# Altium footprint library final_sensor_pcb_lib.PcbLib: 16 footprints
Each footprint in its own frame and in the unit in brackets; x right, y up, seen from the top. Pads: shape width x height; smd on the part's side, far side on the other; paste and mask are expansions set on the pad; w line width, h text height; cw(c..) or ccw(c..) is an arc to the next point about the centre after c.
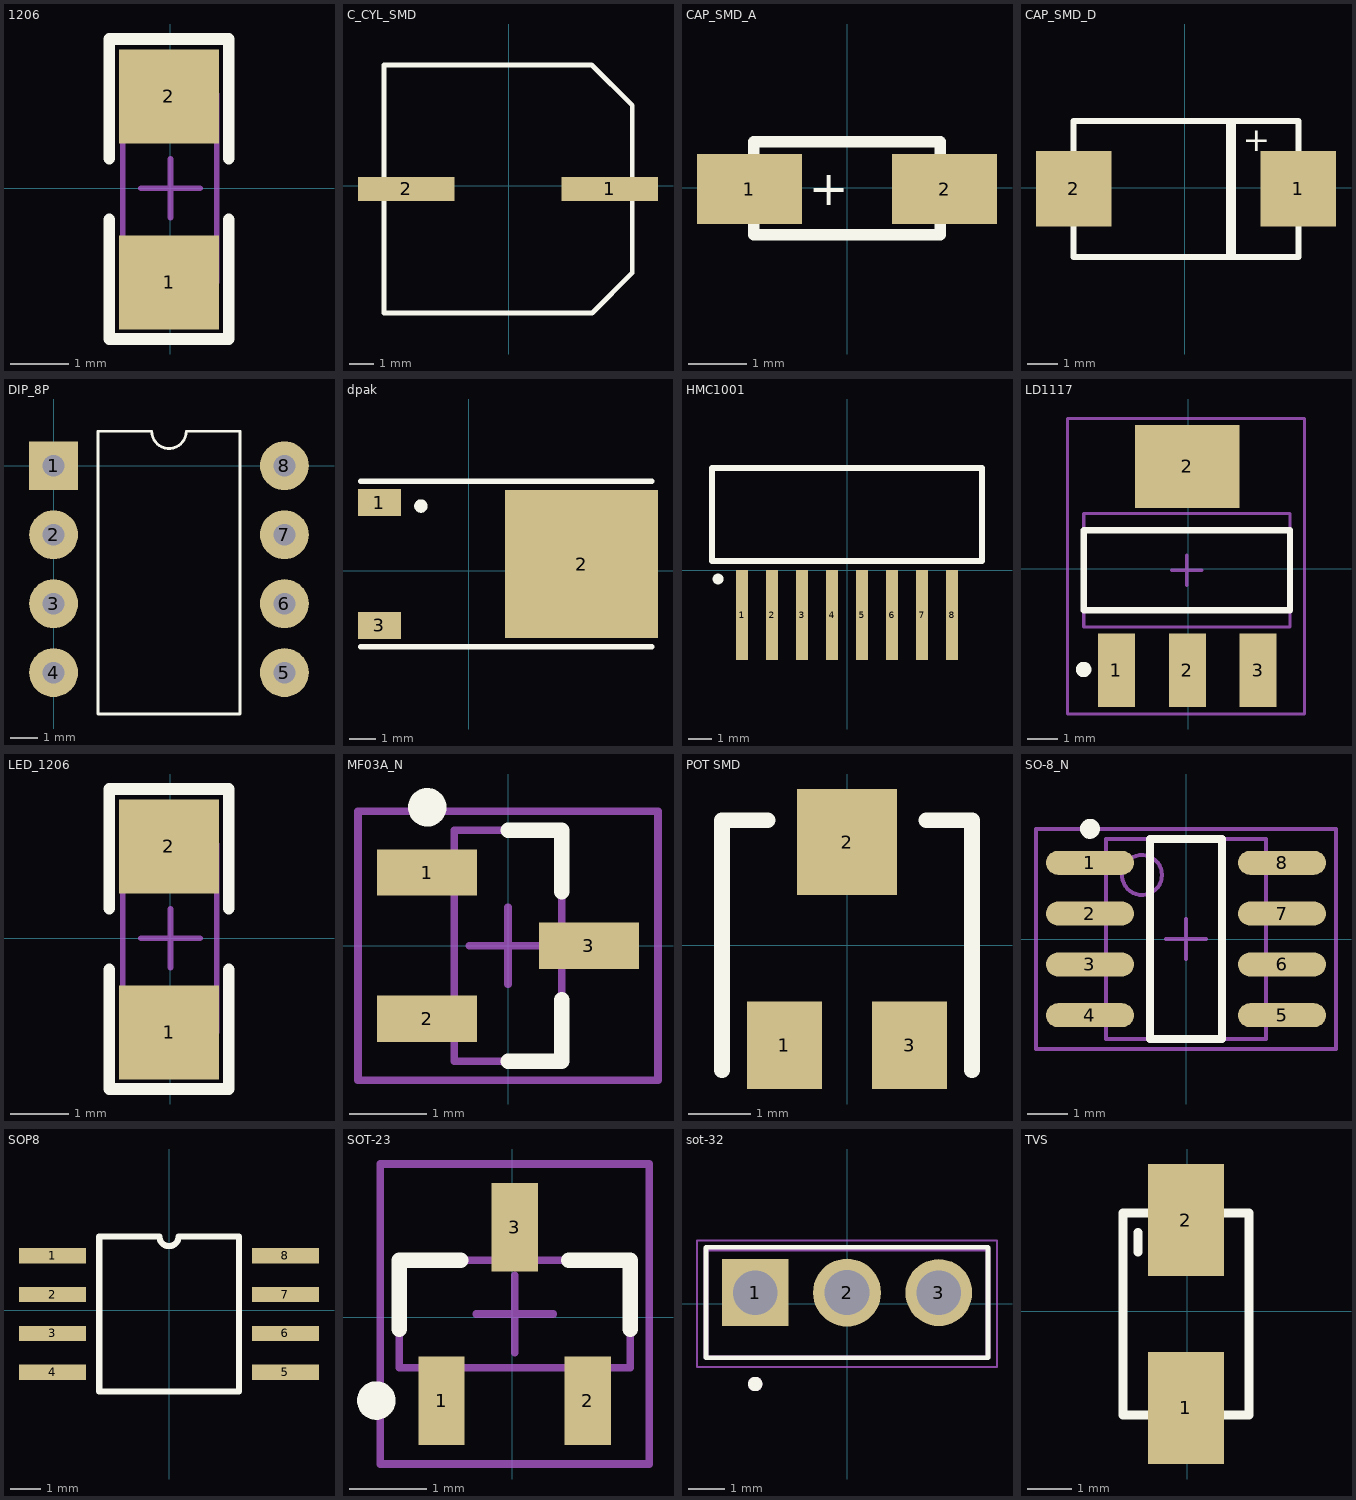
[diagram p0: the footprints below, top view; thin cyan lines are the x and y axes]

## 1206 [mm]
pads (2):
  rect 1.7x1.6 smd: 1(-0.025,-1.6) 2(-0.025,1.563)
Top Overlay:
  lines w0.2: -1.041,-0.533 -1.041,-2.565 0.991,-2.565 0.991,-0.533 ; -1.041,0.508 -1.041,2.54 0.991,2.54 0.991,0.508
Mechanical 15:
  lines w0.1: -0.5,0 0.5,0 ; 0,-0.5 0,0.5 ; -0.813,-1.6 0.787,-1.6 0.787,1.6 -0.813,1.6 -0.813,-1.6
3D body: height 1.1, standoff 0, extent -0.813,-1.422 0.787,1.422
3D body: height 1.1, standoff 0, extent -0.813,-1.676 0.787,-1.422
3D body: height 1.1, standoff 0, extent -0.813,1.422 0.787,1.676

## C_CYL_SMD [mm]
pads (2):
  rect 4x1 smd: 1(4.191,-0.127) 2(-4.267,-0.127)
Top Overlay:
  lines w0.2: -5.182,-5.283 3.454,-5.283 5.118,-3.619 5.118,3.34 3.441,5.017 -5.182,5.017 -5.182,-5.283
3D body: height 2, standoff 0, extent -5.182,-5.283 5.118,5.017
3D body: height 10, standoff 0, extent -5.004,-5.131 4.957,4.849

## CAP_SMD_A [mm]
pads (2):
  rect 1.8x1.2 smd: 1(-1.676,-0.025) 2(1.676,-0.025)
Top Overlay:
  lines w0.2: -1.6,-0.813 1.6,-0.813 1.6,0.787 -1.6,0.787 -1.6,-0.813
  text "+" at -0.66,-0.305 h0.6

## CAP_SMD_D [mm]
pads (2):
  rect 2.5x2.5 smd: 1(3.767,-0.025) 2(-3.683,-0.025)
Top Overlay:
  rectangle: 1.372,-2.286 1.702,2.214
  lines w0.2: -3.683,-2.286 -3.683,2.214 3.767,2.214 3.767,-2.286 -3.683,-2.286
  text "+" at 1.93,1.219 h0.8

## DIP_8P [mm]
pads (8):
  rect 1.8x1.8 hole 0.8: 1(0,0)
  round 1.8 hole 0.8: 2(0,-2.54) 3(0,-5.08) 4(0,-7.62) 5(8.5,-7.62) 6(8.5,-5.08) 7(8.5,-2.54) 8(8.5,0)
Top Overlay:
  lines w0.1: 1.635,-9.144 6.865,-9.144 6.865,1.27 4.885,1.27 cw(c4.25,1.27) 3.615,1.27 1.635,1.27 1.635,-9.144
3D body: height 3, standoff 0, extent 1.651,-9.144 6.858,1.27

## dpak [mm]
pads (3):
  rect 1.6x1 smd: 1(-3.319,2.539) 3(-3.319,-2.031)
  rect 5.7x5.5 smd: 2(4.208,0.254)
Top Overlay:
  circle w0.25: c-1.776,2.413 r0.125
  lines w0.2: -4.019,-2.831 6.831,-2.831 ; -4.019,3.339 6.831,3.339

## HMC1001 [mm]
pads (8):
  rect 0.5x3.81 smd: 1(-4.445,-1.905) 2(-3.175,-1.905) 3(-1.905,-1.905) 4(-0.635,-1.905) 5(0.635,-1.905) 6(1.905,-1.905) 7(3.175,-1.905) 8(4.445,-1.905)
Top Overlay:
  circle w0.254: c-5.461,-0.381 r0.102
  lines w0.254: -5.715,0.381 -5.715,4.318 5.715,4.318 5.715,0.381 -5.715,0.381

## LD1117 [mm]
pads (4):
  rect 1.2x2.4 smd: 1(-2.337,-3.302) 2(-0.034,-3.302) 3(2.265,-3.302)
  rect 3.4x2.7 smd: 2(-0.034,3.327)
Top Overlay:
  circle w0.25: c-3.402,-3.277 r0.125
  lines w0.2: -3.401,-1.351 -3.401,1.249 3.299,1.249 3.299,-1.351 -3.401,-1.351
Mechanical 13:
  lines w0.1: -3.401,-1.901 -3.401,1.799 3.299,1.799 3.299,-1.901 -3.401,-1.901
Mechanical 15:
  lines w0.1: -0.551,-0.051 0.449,-0.051 ; -0.051,-0.551 -0.051,0.449 ; -3.926,-4.724 3.774,-4.724 3.774,4.876 -3.926,4.876 -3.926,-4.724
3D body: height 1.7, standoff 0, extent -3.401,-1.901 3.299,1.799

## LED_1206 [mm]
pads (2):
  rect 1.7x1.6 smd: 1(-0.025,-1.6) 2(-0.025,1.563)
Top Overlay:
  lines w0.2: -1.041,-0.533 -1.041,-2.565 0.991,-2.565 0.991,-0.533 ; -1.041,0.508 -1.041,2.54 0.991,2.54 0.991,0.508
Mechanical 15:
  lines w0.1: -0.5,0 0.5,0 ; 0,-0.5 0,0.5 ; -0.813,-1.6 -0.813,1.6 0.787,1.6 0.787,-1.6 -0.813,-1.6
3D body: height 0.3, standoff 0, extent -0.813,1.219 0.787,1.676
3D body: height 0.3, standoff 0, extent -0.813,-1.676 0.787,-1.219
3D body: height 1.1, standoff 0, extent -0.813,-1.219 0.787,1.219

## MF03A_N [mm] "SOT23, 3-Leads, Body 2.9x1.3mm, Pitch 0.95mm, Lead Span 2.4mm, IPC Medium Density"
height 1.12
pads (3):
  rect 1.3x0.6 smd: 1(-1.05,0.95) 2(-1.05,-0.95) 3(1.05,0)
Top Overlay:
  circle w0.25: c-1.05,1.8 r0.125
  lines w0.2: 0,-1.5 0.7,-1.5 0.7,-0.7 ; 0,1.5 0.7,1.5 0.7,0.7
Mechanical 13:
  lines w0.1: -0.7,-1.5 0.7,-1.5 0.7,1.5 -0.7,1.5 -0.7,-1.5
Mechanical 15:
  lines w0.1: -0.5,0 0.5,0 ; 0,-0.5 0,0.5 ; -1.95,-1.75 1.95,-1.75 1.95,1.75 -1.95,1.75 -1.95,-1.75
3D body: height 1.12, standoff 0, extent -0.7,-1.5 0.7,1.5

## POT SMD [mm]
height 1.62
pads (3):
  rect 1.2x1.4 smd: 1(-1,-1.6) 3(1,-1.6)
  rect 1.6x1.7 smd: 2(0,1.65)
Top Overlay:
  lines w0.254: -2,-2 -2,2 -1.27,2 ; 1.27,2 2,2 2,-2

## SO-8_N [mm] "SOIC, 8-Leads, Body 4.9x3.9mm, Pitch 1.27mm, IPC Medium Density"
height 1.75
pads (8):
  oval 2.2x0.6 smd: 1(-2.4,1.905) 2(-2.4,0.635) 3(-2.4,-0.635) 4(-2.4,-1.905) 5(2.4,-1.905) 6(2.4,-0.635) 7(2.4,0.635) 8(2.4,1.905)
Top Overlay:
  circle w0.25: c-2.4,2.755 r0.125
  lines w0.2: -0.9,-2.5 -0.9,2.5 0.9,2.5 0.9,-2.5 -0.9,-2.5
Mechanical 13:
  circle w0.1: c-1.1,1.6 r0.5
  lines w0.1: -2,-2.5 -2,2.5 2,2.5 2,-2.5 -2,-2.5
Mechanical 15:
  lines w0.1: -0.5,0 0.5,0 ; 0,-0.5 0,0.5 ; -3.75,-2.75 -3.75,2.75 3.75,2.75 3.75,-2.75 -3.75,-2.75
3D body: height 1.75, standoff 0, extent -2,-2.5 2,2.5

## SOP8 [mm]
pads (8):
  rect 2.2x0.5 smd: 1(-3.81,1.778) 2(-3.81,0.508) 3(-3.81,-0.762) 4(-3.81,-2.032) 5(3.806,-2.032) 6(3.806,-0.762) 7(3.806,0.508) 8(3.806,1.778)
Top Overlay:
  lines w0.2: -2.286,-2.667 -2.286,2.413 -0.32,2.413 ccw(c-0.002,2.413) 0.315,2.413 2.286,2.413 2.286,-2.667 -2.286,-2.667

## SOT-23 [mm]
pads (3):
  rect 0.6x1.15 smd: 1(-0.919,-1.081) 2(0.981,-1.081) 3(0.031,1.169)
Top Overlay:
  circle w0.25: c-1.769,-1.081 r0.125
  lines w0.2: -1.469,-0.156 -1.469,0.744 -0.669,0.744 ; 0.731,0.744 1.531,0.744 1.531,-0.156
Mechanical 13:
  lines w0.1: -1.469,-0.656 -1.469,0.744 1.531,0.744 1.531,-0.656 -1.469,-0.656
Mechanical 15:
  lines w0.1: -0.469,0.044 0.531,0.044 ; 0.031,-0.456 0.031,0.544 ; -1.719,-1.906 -1.719,1.994 1.781,1.994 1.781,-1.906 -1.719,-1.906
3D body: height 1, standoff 0, extent -1.419,-1.181 1.481,1.119

## sot-32 [mm]
pads (3):
  rect 1.85x1.85 hole 1.23: 1(-2.54,0.305)
  round 1.88 hole 1.25: 2(0,0.305)
  round 1.85 hole 1.23: 3(2.54,0.305)
Top Overlay:
  circle w0.2: c-2.54,-2.222 r0.1
  lines w0.127: -3.9,-1.5 3.9,-1.5 3.9,1.559 -3.9,1.559 -3.9,-1.5
Mechanical 13:
  circle w0.2: c-2.54,-2.222 r0.1
  lines w0.127: -3.9,-1.5 3.9,-1.5 3.9,1.5 -3.9,1.5 -3.9,-1.5
Mechanical 15:
  lines w0.05: -4.15,-1.75 4.15,-1.75 4.15,1.75 -4.15,1.75 -4.15,-1.75

## TVS [mm]
pads (2):
  rect 1.7x2.5 smd: 1(-0.025,-2.159) 2(-0.025,2.032)
Top Overlay:
  lines w0.2: -1.092,1.321 -1.092,1.753 ; -1.422,-2.316 -1.422,2.184 1.378,2.184 1.378,-2.316 -1.422,-2.316
3D body: height 2.23, standoff 0, extent -1.502,1.803 1.422,2.007
3D body: height 2.2, standoff 0, extent -1.499,-2.54 1.421,2.515
3D body: height 1.5, standoff 0, extent -1.016,-2.756 0.965,-2.527
3D body: height 1.5, standoff 0, extent -1.016,2.515 0.965,2.743